# Altium footprint library SOD-882L.PcbLib: 1 footprints
Each footprint in its own frame and in the unit in brackets; x right, y up, seen from the top. Pads: shape width x height; smd on the part's side, far side on the other; paste and mask are expansions set on the pad; w line width, h text height; cw(c..) or ccw(c..) is an arc to the next point about the centre after c.
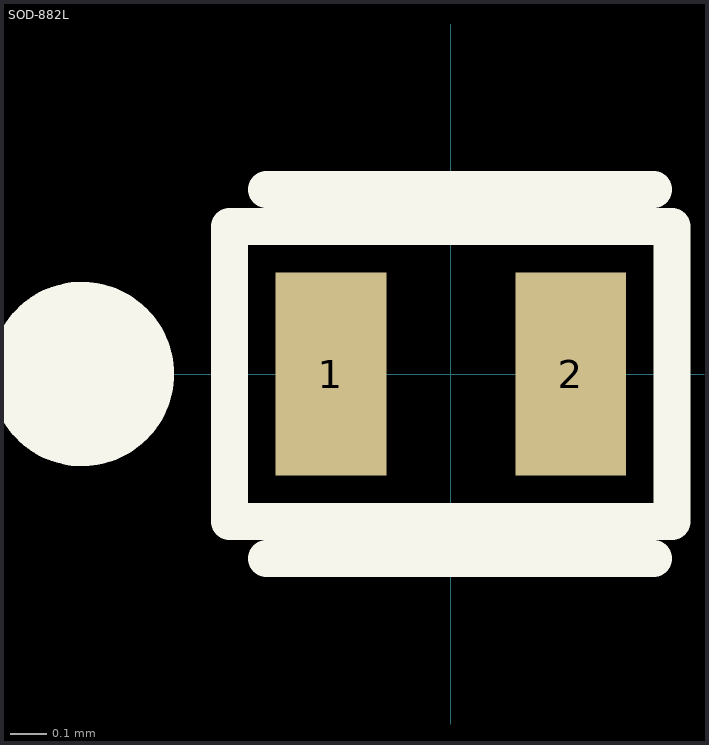
[diagram p0: the footprint, top view; thin cyan lines are the x and y axes]

## SOD-882L [mm]
pads (2):
  rect 0.3x0.55 smd: 1(-0.325,0) 2(0.325,0)
Top Overlay:
  circle w0.25: c-1,0 r0.125
  lines w0.1: -0.5,-0.5 0.55,-0.5 ; -0.5,0.5 0.55,0.5 ; -0.6,-0.4 0.6,-0.4 0.6,0.4 -0.6,0.4 -0.6,-0.4